# Altium integrated library CS5343-CZZ.IntLib: 1 symbol
Pins are listed as number, name and electrical type; pins without a type are passive.

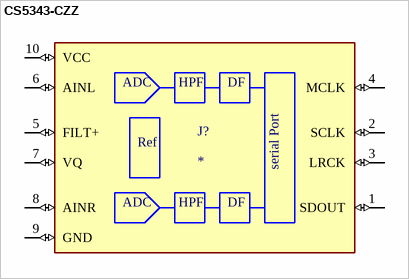
[diagram p0: symbol CS5343-CZZ]

## CS5343-CZZ
designator J?
IC, 24BIT ADC, SMD, TSSOP10, 5343; Resolution (Bits):24bit; Sampling Rate:96kSPS; Input Channel Type:Single Ended; Data Interface:Serial; Supply Voltage Type:-; Supply Voltage Min:3.1V; Supply Voltage Max:5.25V; ADC / DAC Case Style:TSSOP; No. of Pins:10P; MF: Cirrus Logic; MP: CS5343CZZ; SnapEDA_Link: https://www.snapeda.com/parts/CS5343CZZ/Cirrus+Logic/view-part/?ref=snap; Package: None; Value: *; Check_prices: https://www.snapeda.com/parts/CS5343CZZ/Cirrus+Logic/view-part/?ref=eda
footprint 10LD-TSSOP10
pins: 1 SDOUT (io), 2 SCLK (io), 3 LRCK (io), 4 MCLK (io), 5 FILT+ (io), 6 AINL (io), 7 VQ (io), 8 AINR (io), 9 GND (io), 10 VCC (io)
text: ADC; HPF; DF; Ref; serial Port